# EAGLE library part CEM3340 (library wb-synth)
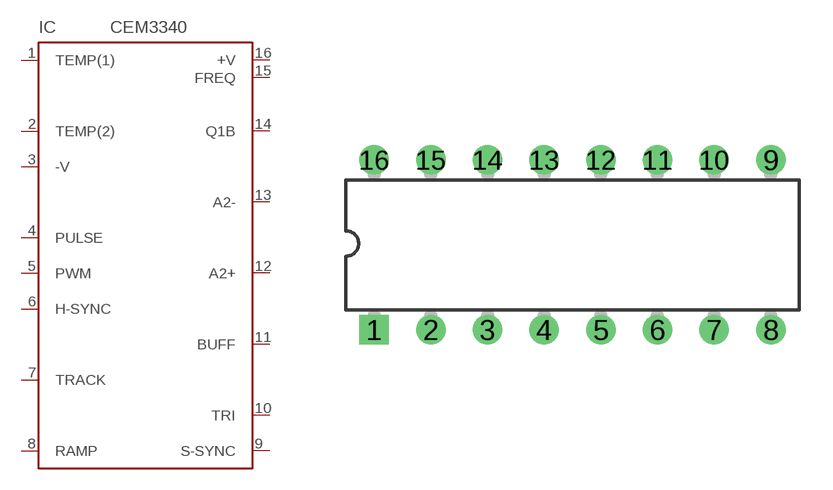
[diagram p0: symbol with the pads of DIL16; footprint DIL16]

Designator prefix IC

## CEM3340  [DIL16]
1  TEMP(1)
2  TEMP(2)
3  -V  pwr
4  PULSE  out
5  PWM  in
6  H-SYNC  in
7  TRACK  in
8  RAMP  out
9  S-SYNC  in
10  TRI  out
11  BUFF  in
12  A2+  in
13  A2-
14  Q1B
15  FREQ  in
16  +V

## Footprint DIL16 (pad centres in mm)
drill 0.813 square: 1 -8.89,-3.81
drill 0.813: 2 -6.35,-3.81; 3 -3.81,-3.81; 4 -1.27,-3.81; 5 1.27,-3.81; 6 3.81,-3.81; 7 6.35,-3.81; 8 8.89,-3.81; 9 8.89,3.81; 10 6.35,3.81; 11 3.81,3.81; 12 1.27,3.81; 13 -1.27,3.81; 14 -3.81,3.81; 15 -6.35,3.81; 16 -8.89,3.81